# Altium footprint library BASE_BD.PcbLib: 62 footprints (part 2 of 4)
Each footprint in its own frame and in the unit in brackets; x right, y up, seen from the top. Pads: shape width x height; smd on the part's side, far side on the other; paste and mask are expansions set on the pad; w line width, h text height; cw(c..) or ccw(c..) is an arc to the next point about the centre after c.
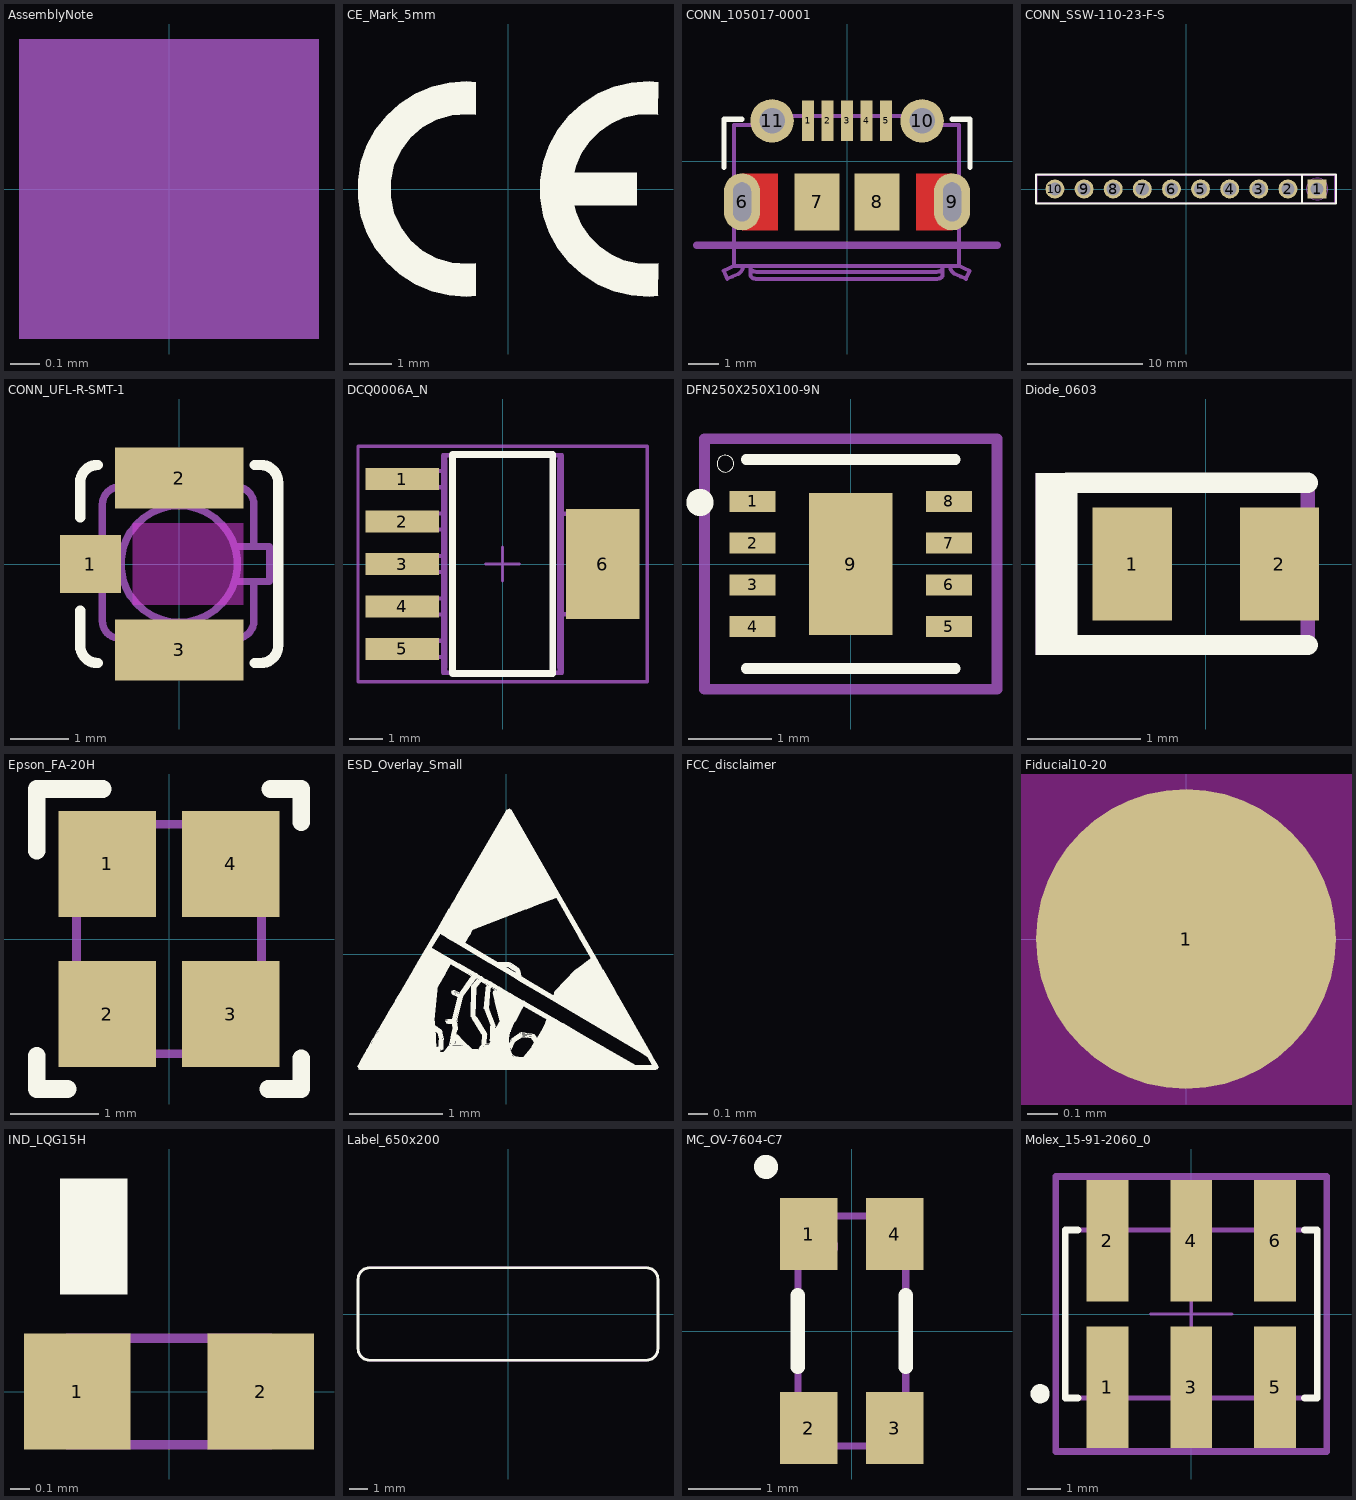
[diagram p1: the footprints below, top view; thin cyan lines are the x and y axes]

## AssemblyNote [mm] "Assembly Note"
Mechanical 5:
  rectangle: -0.508,-0.508 0.508,0.508
  text ".Designator" at -4.277,-0.422 h1.02
  text ".Comment" at 1.143,-0.508 h1.02

## CE_Mark_5mm [mm] "Minimum text height for CE Mark"
Top Overlay:
  region: -0.75,-2.487 -0.958,-2.508 -1.376,-2.48 -1.783,-2.383 -2.169,-2.22 -2.522,-1.994 -2.832,-1.714 -3.092,-1.385 -3.293,-1.018 -3.43,-0.622 -3.5,-0.209 -3.5,0.209 -3.43,0.622 -3.293,1.018 -3.092,1.385 -2.832,1.714 -2.522,1.994 -2.169,2.22 -1.783,2.383 -1.376,2.48 -0.958,2.508 -0.75,2.487 -0.75,1.732 -0.937,1.749 -1.31,1.722 -1.669,1.617 -1.998,1.438 -2.281,1.193 -2.505,0.893 -2.66,0.553 -2.74,0.187 -2.74,-0.187 -2.66,-0.553 -2.505,-0.893 -2.281,-1.193 -1.998,-1.438 -1.669,-1.617 -1.31,-1.722 -0.937,-1.749 -0.75,-1.732
  region: 3.5,-1.732 3.337,-1.748 3.01,-1.733 2.691,-1.658 2.392,-1.525 2.123,-1.339 1.894,-1.106 1.712,-0.834 1.583,-0.533 1.541,-0.375 3,-0.375 3,0.375 1.541,0.375 1.583,0.533 1.712,0.834 1.894,1.106 2.123,1.339 2.392,1.525 2.691,1.658 3.01,1.733 3.337,1.748 3.5,1.732 3.5,2.487 3.292,2.508 2.874,2.48 2.467,2.383 2.081,2.22 1.728,1.994 1.418,1.714 1.158,1.385 0.957,1.018 0.82,0.622 0.75,0.209 0.75,-0.209 0.82,-0.622 0.957,-1.018 1.158,-1.385 1.418,-1.714 1.728,-1.994 2.081,-2.22 2.467,-2.383 2.874,-2.48 3.292,-2.508 3.5,-2.487

## CONN_105017-0001 [mm] "Molex Micro USB-B"
height 2.9
pads (11):
  rect 0.4x1.35 smd: 1(-1.3,1.35) 2(-0.65,1.35) 3(0,1.35) 4(0.65,1.35) 5(1.3,1.35)
  oval 1.2x1.9 hole 0.6 slot 1.3 at 90 deg: 6(-3.5,-1.35) 9(3.5,-1.35)
  rect 1.5x1.9 smd: 7(-1,-1.35) 8(1,-1.35)
  round 1.45 hole 0.85: 10(2.5,1.35) 11(-2.5,1.35)
Top Layer:
  region: 3.499,-0.399 2.299,-0.399 2.299,-2.299 3.499,-2.299
  rectangle: -3.5,-2.298 -2.3,-0.398
Top Overlay:
  lines w0.178: -4.1,-0.2 -4.1,1.4 -3.5,1.4 ; 3.5,1.4 4.1,1.4 4.1,-0.2
Top Paste:
  region: 2.8,-0.402 2.3,-0.402 2.3,-2.302 2.8,-2.302
  rectangle: -2.799,-2.303 -2.299,-0.403
Mechanical 4:
  lines w0.254: -5,-2.8 5,-2.8
Mechanical 5:
  drawing of 162 lines, arcs and shapes, not listed
  text ".Designator" at -0.817,-0.565 h1.02
3D body "Molex_1050170001.stp": height 2.72, standoff -0.58, extent -4.1,-3.93 4.1,1.5

## CONN_SSW-110-23-F-S [mm] "SAMTEC"
height 8.51
pads (10):
  rect 1.65x1.65 hole 1.15 mask+0.064: 1(11.43,0)
  round 1.65 hole 1.15 mask+0.064: 2(8.89,0) 3(6.35,0) 4(3.81,0) 5(1.27,0) 6(-1.27,0) 7(-3.81,0) 8(-6.35,0) 9(-8.89,0) 10(-11.43,0)
Top Overlay:
  lines w0.203: 10.109,1.27 10.109,-1.219 10.135,-1.245 ; -13.081,-1.27 13.081,-1.27 13.081,1.27 -13.081,1.27 -13.081,-1.27
Mechanical 5:
  circle w0.102: c11.433,0 r0.943
  lines w0.1: -12.954,-1.219 12.954,-1.219 12.954,1.194 12.929,1.219 ; -12.954,-1.194 -12.954,1.219 12.954,1.219
  text ".Designator" at -1.682,-0.526 h1.02
3D body: height 8.51, standoff 0, extent -13.004,-1.269 13.004,1.269
3D body: height 8.59, standoff -10.01, extent 11.112,-0.318 11.747,0.317
3D body: height 8.59, standoff -10.01, extent 8.572,-0.318 9.207,0.317
3D body: height 8.59, standoff -10.01, extent 6.007,-0.318 6.642,0.317
3D body: height 8.59, standoff -10.01, extent 3.467,-0.318 4.102,0.317
3D body: height 8.59, standoff -10.01, extent 0.952,-0.318 1.587,0.317
3D body: height 8.59, standoff -10.01, extent -1.588,-0.318 -0.953,0.317
3D body: height 8.59, standoff -10.01, extent -6.693,-0.318 -6.058,0.317
3D body: height 8.59, standoff -10.01, extent -9.208,-0.318 -8.573,0.317
3D body: height 8.59, standoff -10.01, extent -11.773,-0.318 -11.138,0.317
3D body: height 8.59, standoff -10.01, extent -4.153,-0.318 -3.518,0.317

## CONN_UFL-R-SMT-1 [mm] "Hirose recommended land pattern http://www.hirose.co.jp/cataloge_hp/e32119372.pdf 2009.2"
height 1.25
pads (3):
  rect 1.05x1 smd: 1(-1.525,0)
  rect 2.2x1.05 smd: 2(0,1.475) 3(0,-1.475)
Top Layer keep-out:
  rectangle: -0.8,-0.7 1.1,0.7
Top Overlay:
  lines w0.178: -1.7,-0.8 -1.7,-1.4 ccw(c-1.4,-1.4) -1.4,-1.7 ; -1.7,0.8 -1.7,1.4 cw(c-1.4,1.4) -1.4,1.7 ; 1.3,-1.7 1.4,-1.7 ccw(c1.4,-1.4) 1.7,-1.4 1.7,0 1.7,1.4 ccw(c1.4,1.4) 1.4,1.7 1.3,1.7
Mechanical 5:
  lines w0.127: -1.319,-0.3 -1.55,-0.3 -1.55,0.3 -1.319,0.3 ; -0.9,-1.277 -0.9,-1.5 0.9,-1.5 0.9,-1.277 ; -0.9,1.323 -0.9,1.5 0.9,1.5 0.9,1.323 ; 0.954,-0.3 1.55,-0.3 1.55,0.3 0.954,0.3 ; 1.281,-0.3 1.281,-0.977 cw(c0.981,-0.977) 0.981,-1.277 -1.019,-1.277 cw(c-1.019,-0.977) -1.319,-0.977 -1.319,1.023 cw(c-1.019,1.023) -1.019,1.323 0.981,1.323 cw(c0.981,1.023) 1.281,1.023 1.281,0.3 ; 0,-1 cw(c0,0) 0,1 ; 0,-1 ccw(c0,0) 0,1 ; 0,-1 ccw(c0,0) 0,1 ; 0,-1 cw(c0,0) 0,1
  text ".Designator" at 0.554,0.196 h0.51
3D body "U.FL-R-SMT-1.stp": height 1.27, standoff 0.01, extent -1.55,-1.5 1.55,1.5

## DCQ0006A_N [mm]
height 0.6
pads (6):
  rect 2.2x0.65 smd: 1(-3,2.54) 2(-3,1.27) 3(-3,0) 4(-3,-1.27) 5(-3,-2.54)
  rect 2.2x3.3 smd: 6(3,0)
Top Overlay:
  lines w0.2: -1.5,-3.275 1.5,-3.275 1.5,3.275 -1.5,3.275 -1.5,-3.275
Mechanical 5:
  lines w0.127: -1.713,-3.178 -1.785,-3.25 ; -1.713,3.178 -1.785,3.25 ; -1.707,-3.102 -1.707,3.102 ; 1.697,-3.102 1.697,3.102 ; 1.703,-3.178 1.775,-3.25 ; 1.703,3.178 1.775,3.25 ; -1.785,-3.25 1.775,-3.25 ; -1.785,-3.25 -1.785,3.25 ; -1.785,3.25 1.775,3.25 ; 1.775,-3.25 1.775,3.25 ; -3.485,-2.781 -3.485,-2.299 -2.951,-2.299 -2.834,-2.299 -2.758,-2.299 -2.364,-2.299 -1.785,-2.299 -1.785,-2.781 -2.364,-2.781 -2.758,-2.781 -2.834,-2.781 -2.951,-2.781 -3.485,-2.781 ; -3.485,-1.511 -3.485,-1.029 -2.951,-1.029 -2.834,-1.029 -2.758,-1.029 -2.364,-1.029 -1.785,-1.029 -1.785,-1.511 -2.364,-1.511 -2.758,-1.511 -2.834,-1.511 -2.951,-1.511 -3.485,-1.511 ; -3.485,-0.241 -3.485,0.241 -2.951,0.241 -2.834,0.241 -2.758,0.241 -2.364,0.241 -1.785,0.241 -1.785,-0.241 -2.364,-0.241 -2.758,-0.241 -2.834,-0.241 -2.951,-0.241 -3.485,-0.241 ; -3.485,1.029 -3.485,1.511 -2.951,1.511 -2.834,1.511 -2.758,1.511 -2.364,1.511 -1.785,1.511 -1.785,1.029 -2.364,1.029 -2.758,1.029 -2.834,1.029 -2.951,1.029 -3.485,1.029 ; -3.485,2.299 -3.485,2.781 -2.951,2.781 -2.834,2.781 -2.758,2.781 -2.364,2.781 -1.785,2.781 -1.785,2.299 -2.364,2.299 -2.758,2.299 -2.834,2.299 -2.951,2.299 -3.485,2.299 ; 1.775,-1.5 1.775,1.5 2.354,1.5 2.748,1.5 2.824,1.5 2.941,1.5 3.475,1.5 3.475,-1.5 2.941,-1.5 2.824,-1.5 2.748,-1.5 2.354,-1.5 1.775,-1.5
  text ".Designator" at -0.475,1.875 h1.02
Mechanical 15:
  lines w0.1: -0.5,0 0.5,0 ; 0,-0.5 0,0.5 ; -4.325,-3.525 4.325,-3.525 4.325,3.525 -4.325,3.525 -4.325,-3.525
3D body "DCQ0006AakaMP06A.stp": height 1.64, standoff -0.04, extent -3.48,-3.25 3.48,3.25

## DFN250X250X100-9N [mm]
pads (9):
  rect 0.55x0.25 smd: 1(-1.175,0.75) 2(-1.175,0.25) 3(-1.175,-0.25) 4(-1.175,-0.75) 5(1.175,-0.75) 6(1.175,-0.25) 7(1.175,0.25) 8(1.175,0.75)
  rect 1x1.7 smd: 9(0,0)
Top Overlay:
  circle w0.254: c-1.803,0.737 r0.036
  circle w0: c-1.5,1.2 r0.1
  lines w0.127: -1.25,-1.25 1.25,-1.25 ; -1.25,1.25 1.25,1.25
Top Paste:
  region: -0.45,0.8 0.45,0.8 0.45,-0.801 -0.45,-0.801
Mechanical 16:
  lines w0.127: -1.75,-1.5 1.75,-1.5 1.75,1.5 -1.75,1.5 -1.75,-1.5

## Diode_0603 [mm] "Based on Bourns recommended land pattern Rev 10/09"
height 0.85
pads (2):
  rect 0.7x1 smd: 1(-0.65,0) 2(0.65,0)
Top Overlay:
  region: -1.5,0.8 -1.5,-0.8 -1.2,-0.8 -1.2,0.8
  lines w0.178: 0.9,-0.716 -1.224,-0.716 -1.224,0.718 0.9,0.718
Mechanical 5:
  region: -1.5,0.8 -1.5,-0.8 -1.2,-0.8 -1.2,0.8
  lines w0.127: -1.224,-0.716 0.9,-0.716 0.9,0.718 -1.224,0.718 -1.224,-0.716
  text ".Designator" at 0.218,0.275 h0.51
3D body "Diode_0603.stp": height 0.85, standoff 0, extent -0.9,-0.5 0.9,0.5

## Epson_FA-20H [mm]
height 0.6
pads (4):
  rect 1.1x1.2 smd: 1(-0.7,0.85) 2(-0.7,-0.85) 3(0.7,-0.85) 4(0.7,0.85)
Top Overlay:
  lines w0.2: -1.5,-1.325 -1.5,-1.7 -1.15,-1.7 ; -1.5,1 -1.5,1.7 -0.75,1.7 ; 1.125,-1.7 1.5,-1.7 1.5,-1.35 ; 1.15,1.7 1.5,1.7 1.5,1.325
Mechanical 5:
  circle w0.1: c-0.7,0.9 r0.2
  lines w0.1: -1.05,-1.3 -1.05,1.3 1.05,1.3 1.05,-1.3 -1.05,-1.3
  text ".Designator" at 0.381,0.305 h0.64
3D body: height 0.55, standoff 0, extent -1.05,-1.3 1.05,1.3
3D body: height 0.56, standoff 0.54, extent -0.899,0.701 -0.501,1.099

## ESD_Overlay_Small [mm]
Top Overlay:
  drawing of 901 lines, arcs and shapes, not listed

## FCC_disclaimer [mm]
Top Overlay:
  text "For evaluation only;" at 4.191,-28.75 h1.52

## Fiducial10-20 [mm]
height 2.9
pads (1):
  round 1 smd mask+0.5: 1(0,0)
Top Layer keep-out:
  circle w1.178: c0,0 r0.5

## IND_LQG15H [mm] "MuRata"
height 0.55
pads (2):
  rect 0.55x0.6 smd: 1(-0.475,0) 2(0.475,0)
Top Overlay:
  rectangle: -0.563,0.501 -0.213,1.101
Mechanical 5:
  rectangle: -0.696,-0.275 -0.521,0.275
  lines w0.05: -0.525,-0.275 0.525,-0.275 0.525,0.275 -0.525,0.275 -0.525,-0.275
  text ".Designator" at -0.075,0.928 h0.33
3D body: height 0.55, standoff 0, extent -0.524,-0.274 -0.276,0.274
3D body: height 0.54, standoff 0, extent -0.274,-0.274 0.274,0.274
3D body: height 0.55, standoff 0, extent 0.276,-0.274 0.524,0.274
3D body: height 0.55, standoff 0.54, extent -0.274,-0.274 -0.001,0.274

## Label_650x200 [mil] "Thermal Transfer Label"
height 1
pads (1):
  round 1 on Mech13: 0(0,0)
Top Overlay:
  lines w6: -325,-75 ccw(c-300,-75) -300,-100 300,-100 ccw(c300,-75) 325,-75 325,75 ccw(c300,75) 300,100 -300,100 ccw(c-300,75) -325,75 -325,-75
Mechanical 5:
  lines w5: -325,-75 ccw(c-300,-75) -300,-100 300,-100 ccw(c300,-75) 325,-75 325,75 ccw(c300,75) 300,100 -300,100 ccw(c-300,75) -325,75 -325,-75
  text ".Designator" at 128.2,-1.2 h40
3D body: height 1, standoff 0, extent -325.02,-100.02 325.02,100.02

## MC_OV-7604-C7 [mm] "MICRO CRYSTAL"
height 1
pads (4):
  rect 0.8x1 smd: 1(-0.6,1.35) 2(-0.6,-1.35) 3(0.6,-1.35) 4(0.6,1.35)
Top Overlay:
  circle w0.254: c-1.194,2.286 r0.04
  lines w0.2: -0.75,-0.5 -0.75,0.5 ; 0.75,-0.5 0.75,0.5
Mechanical 5:
  circle w0.1: c-0.408,1.176 r0.168
  lines w0.1: -0.75,-1.6 0.75,-1.6 0.75,1.6 -0.75,1.6 -0.75,-1.6
  text ".Designator" at 0.424,0.131 h0.51
3D body: height 1, standoff 0, extent -0.749,-1.599 0.749,1.599
3D body: height 1.01, standoff 1, extent -0.595,0.994 -0.196,1.393

## Molex_15-91-2060_0 [mm]
pads (6):
  rect 1.27x3.68 smd paste+0 mask+0: 1(-2.54,-2.22) 2(-2.54,2.22) 3(0,-2.22) 4(0,2.22) 5(2.54,-2.22) 6(2.54,2.22)
Top Overlay:
  circle w0.33: c-4.572,-2.413 r0.125
  lines w0.2: -3.81,-2.54 -3.81,2.54 ; 3.81,-2.54 3.81,2.54
  lines w0.203: -3.81,-2.54 -3.429,-2.54 ; -3.81,2.54 -3.429,2.54 ; 3.429,-2.54 3.81,-2.54 ; 3.429,2.54 3.81,2.54
Mechanical 10:
  lines w0.2: -4.1,-4.16 4.1,-4.16 4.1,4.16 -4.1,4.16 -4.1,-4.16
  text ".Designator" at 0,0 h1
Mechanical 12:
  lines w0.15: -3.81,-2.54 3.81,-2.54 3.81,2.54 -3.81,2.54 -3.81,-2.54
Mechanical 15:
  lines w0.1: -1.23,0 1.23,0 ; 0,-1.23 0,1.23
  lines w0.2: -4.1,-4.16 4.1,-4.16 4.1,4.16 -4.1,4.16 -4.1,-4.16
3D body "3dmodel.step": height 0.25, standoff 0, extent -4.1,-4.16 4.1,4.16